# EAGLE library part MAX30003 (library (custom)-new-components)
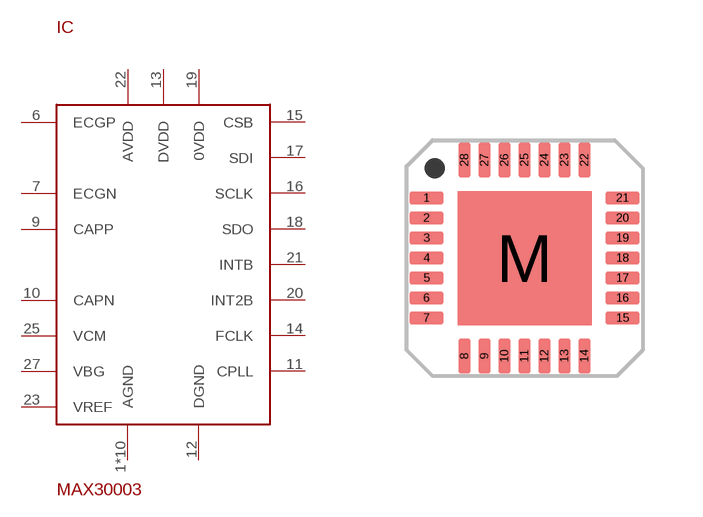
[diagram p14: symbol with the pads of QFN28; footprint QFN28]

Designator prefix IC

## MAX30003  [QFN28]
1  AGND
2  AGND
3  AGND
4  AGND
5  AGND
6  ECGP
7  ECGN
8  AGND
9  CAPP
10  CAPN
11  CPLL
12  DGND
13  DVDD
14  FCLK
15  CSB
16  SCLK
17  SDI
18  SDO
19  0VDD
20  INT2B
21  INTB
22  AVDD
23  VREF
24  AGND
25  VCM
26  AGND
27  VBG
28  AGND
M  AGND

## Footprint QFN28 (pad centres in mm)
28-Lead Plastic Quad Flat No Lead Package (ML) 6x6 mm Body, Punch Singulated (QFN) Source: ww1.microchip.com/downloads/en/DeviceDoc/39605c.pdf
smd 0.85 x 0.3: 1 -2.45,1.5; 2 -2.45,1; 3 -2.45,0.5; 4 -2.45,0; 5 -2.45,-0.5; 6 -2.45,-1; 7 -2.45,-1.5; 15 2.45,-1.5; 16 2.45,-1; 17 2.45,-0.5; 18 2.45,0; 19 2.45,0.5; 20 2.45,1; 21 2.45,1.5
smd 0.3 x 0.85: 8 -1.5,-2.45; 9 -1,-2.45; 10 -0.5,-2.45; 11 0,-2.45; 12 0.5,-2.45; 13 1,-2.45; 14 1.5,-2.45; 22 1.5,2.45; 23 1,2.45; 24 0.5,2.45; 25 0,2.45; 26 -0.5,2.45; 27 -1,2.45; 28 -1.5,2.45
smd 3.35 x 3.35: M 0,0